# Altium integrated library Analog Devices RF IF Timing ICs and Clocks.IntLib: 168 symbols (part 17 of 18)
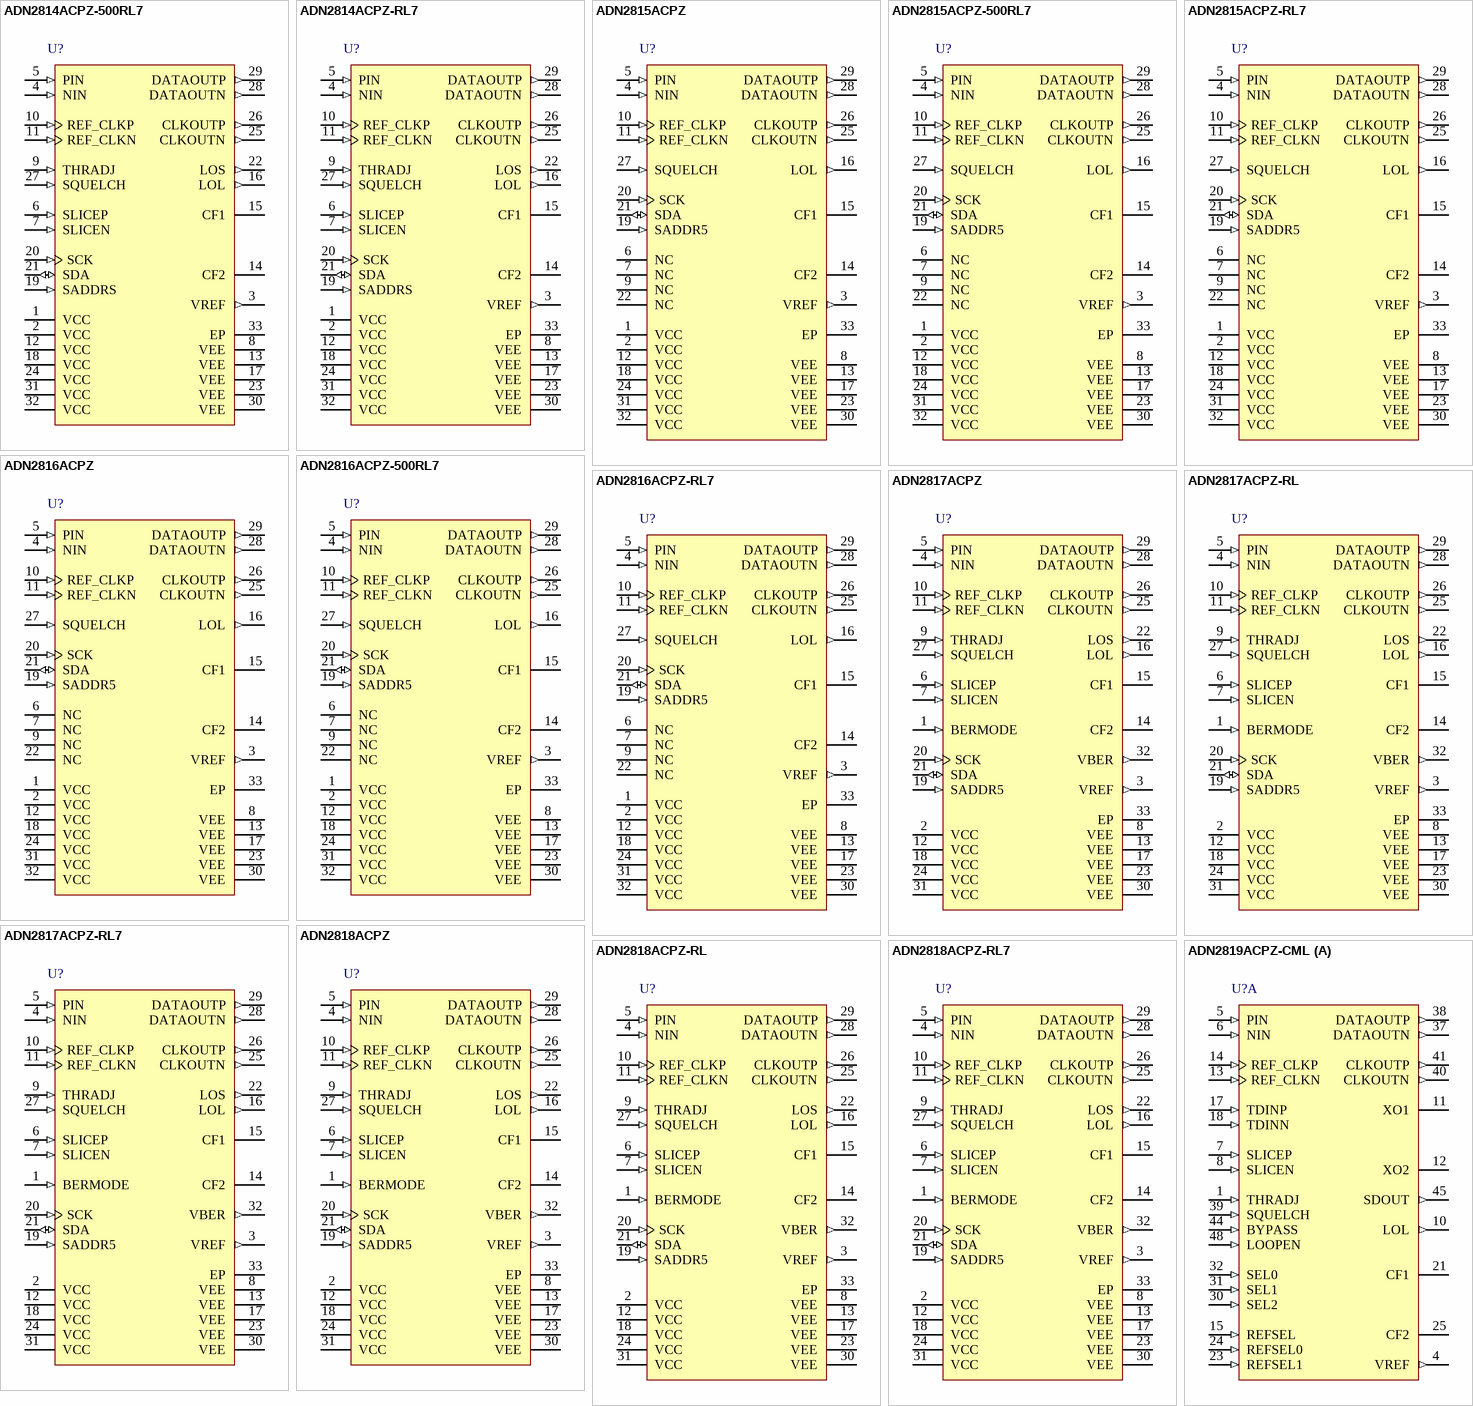
[diagram p31: symbols ADN2814ACPZ-500RL7 to ADN2819ACPZ-CML]

## ADN2817ACPZ
designator U?
Continuous Rate 10 Mbps to 2.7 Gbps Clock and Data Recovery IC, CP-32-2, Pb-Free, 490 Tray; Voltage Supply (V): 3.3; Data Rate (Gb/s): 2.7; Input Sensitivity (mVp-p): 5; Jitter Tolerance (Ulpp): 1.0 @ 1 MHz; Jitter Transfer: 500 kHz @ OC48; Jitter Gen (mUI rms): 1; Reference Clk: Optional; DatasheetVersion: Rev. D; PackageVersion: Jan-2005; PackageReference: CP-32-2; PackageDescription: 32-Lead Lead Frame Chip Scale Package [LFCSP_VQ]; Rate: Continuous; Code_JEDEC: MO-220-VHHD-2; ComponentLink1Description: Manufacturer URL; ComponentLink1URL: www.analog.com; ComponentLink2Description: Datasheet; ComponentLink2URL: http://www.analog.com/static/imported-files/data_sheets/ADN2817_2818.pdf; ComponentLink3Description: Package Specification; ComponentLink3URL: http://www.analog.com/static/imported-files/packages/414143737956480539664569CP_32_2.pdf
footprint ADI-CP-32-2_N (QFN, 32-Leads, Body 5x5mm, Pitch 0.5mm, Thermal Pad 3.1x3.1mm, IPC Medium Density)
footprint ADI-CP-32-2_L (QFN, 32-Leads, Body 5x5mm, Pitch 0.5mm, Thermal Pad 3.1x3.1mm, IPC High Density)
footprint ADI-CP-32-2_M (QFN, 32-Leads, Body 5x5mm, Pitch 0.5mm, Thermal Pad 3.1x3.1mm, IPC Low Density)
pins: 1 BERMODE (in) "Set this pin to logic low to enable analog voltage output mode for BER monitor.", 2 VCC (power) "Power for Input Stage, LOS.", 3 VREF (out) "Internal VREF Voltage. Decouple to ground with a 0.1 uF capacitor.", 4 NIN (in) "Differential Data Input. CML.", 5 PIN (in) "Differential Data Input. CML.", 6 SLICEP (in) "Differential Slice Level Adjust Input.", 7 SLICEN (in) "Differential Slice Level Adjust Input.", 8 VEE (power) "GND for the Limiting Amplifier, LOS.", 9 THRADJ (in) "LOS Threshold Setting Resistor.", 10 REF_CLKP (in) "Differential REFCLK Input. 10 MHz to 200 MHz.", 11 REF_CLKN (in) "Differential REFCLK Input. 10 MHz to 200 MHz.", 12 VCC (power) "VCO Power.", 13 VEE (power) "VCO Ground.", 14 CF2 "Frequency Loop Capacitor.", 15 CF1 "Frequency Loop Capacitor.", 16 LOL (out) "Loss of Lock Indicator. Active high, LVTTL.", 17 VEE (power) "FLL Detector Ground.", 18 VCC (power) "FLL Detector Power.", 19 SADDR5 (in) "Slave Address Bit 5.", 20 SCK (in) "I2C Clock Input.", 21 SDA (io) "I2C Data Input.", 22 LOS (out) "Loss of Signal Detect Output. Active high, LVTTL.", 23 VEE (power) "Output Buffer, I2C Ground.", 24 VCC (power) "Output Buffer, I2C Power.", 25 CLKOUTN (out) "Differential Recovered Clock Output. CML.", 26 CLKOUTP (out) "Differential Recovered Clock Output. CML.", 27 SQUELCH (in) "Disable Clock and Data Outputs. Active high, LVTTL.", 28 DATAOUTN (out) "Differential Recovered Data Output. CML.", 29 DATAOUTP (out) "Differential Recovered Data Output. CML.", 30 VEE (power) "Phase Detector, Phase Shifter Ground.", 31 VCC (power) "Phase Detector, Phase Shifter Power.", 32 VBER (out) "This pin represents BER when analog BERMON is enabled with 3 k ohm to VEE.", 33 EP (power) "Exposed Paddle. The Exposed paddle on the bottom of the package must be connected to VEE."

## ADN2817ACPZ-RL
designator U?
Continuous Rate 10 Mbps to 2.7 Gbps Clock and Data Recovery IC, CP-32-2, Pb-Free, 5000 Reel; Voltage Supply (V): 3.3; Data Rate (Gb/s): 2.7; Input Sensitivity (mVp-p): 5; Jitter Tolerance (Ulpp): 1.0 @ 1 MHz; Jitter Transfer: 500 kHz @ OC48; Jitter Gen (mUI rms): 1; Reference Clk: Optional; DatasheetVersion: Rev. D; PackageVersion: Jan-2005; PackageReference: CP-32-2; PackageDescription: 32-Lead Lead Frame Chip Scale Package [LFCSP_VQ]; Rate: Continuous; Code_JEDEC: MO-220-VHHD-2; ComponentLink1Description: Manufacturer URL; ComponentLink1URL: www.analog.com; ComponentLink2Description: Datasheet; ComponentLink2URL: http://www.analog.com/static/imported-files/data_sheets/ADN2817_2818.pdf; ComponentLink3Description: Package Specification; ComponentLink3URL: http://www.analog.com/static/imported-files/packages/414143737956480539664569CP_32_2.pdf
footprint ADI-CP-32-2_N (QFN, 32-Leads, Body 5x5mm, Pitch 0.5mm, Thermal Pad 3.1x3.1mm, IPC Medium Density)
footprint ADI-CP-32-2_L (QFN, 32-Leads, Body 5x5mm, Pitch 0.5mm, Thermal Pad 3.1x3.1mm, IPC High Density)
footprint ADI-CP-32-2_M (QFN, 32-Leads, Body 5x5mm, Pitch 0.5mm, Thermal Pad 3.1x3.1mm, IPC Low Density)
pins: 1 BERMODE (in) "Set this pin to logic low to enable analog voltage output mode for BER monitor.", 2 VCC (power) "Power for Input Stage, LOS.", 3 VREF (out) "Internal VREF Voltage. Decouple to ground with a 0.1 uF capacitor.", 4 NIN (in) "Differential Data Input. CML.", 5 PIN (in) "Differential Data Input. CML.", 6 SLICEP (in) "Differential Slice Level Adjust Input.", 7 SLICEN (in) "Differential Slice Level Adjust Input.", 8 VEE (power) "GND for the Limiting Amplifier, LOS.", 9 THRADJ (in) "LOS Threshold Setting Resistor.", 10 REF_CLKP (in) "Differential REFCLK Input. 10 MHz to 200 MHz.", 11 REF_CLKN (in) "Differential REFCLK Input. 10 MHz to 200 MHz.", 12 VCC (power) "VCO Power.", 13 VEE (power) "VCO Ground.", 14 CF2 "Frequency Loop Capacitor.", 15 CF1 "Frequency Loop Capacitor.", 16 LOL (out) "Loss of Lock Indicator. Active high, LVTTL.", 17 VEE (power) "FLL Detector Ground.", 18 VCC (power) "FLL Detector Power.", 19 SADDR5 (in) "Slave Address Bit 5.", 20 SCK (in) "I2C Clock Input.", 21 SDA (io) "I2C Data Input.", 22 LOS (out) "Loss of Signal Detect Output. Active high, LVTTL.", 23 VEE (power) "Output Buffer, I2C Ground.", 24 VCC (power) "Output Buffer, I2C Power.", 25 CLKOUTN (out) "Differential Recovered Clock Output. CML.", 26 CLKOUTP (out) "Differential Recovered Clock Output. CML.", 27 SQUELCH (in) "Disable Clock and Data Outputs. Active high, LVTTL.", 28 DATAOUTN (out) "Differential Recovered Data Output. CML.", 29 DATAOUTP (out) "Differential Recovered Data Output. CML.", 30 VEE (power) "Phase Detector, Phase Shifter Ground.", 31 VCC (power) "Phase Detector, Phase Shifter Power.", 32 VBER (out) "This pin represents BER when analog BERMON is enabled with 3 k ohm to VEE.", 33 EP (power) "Exposed Paddle. The Exposed paddle on the bottom of the package must be connected to VEE."

## ADN2817ACPZ-RL7
designator U?
Continuous Rate 10 Mbps to 2.7 Gbps Clock and Data Recovery IC, CP-32-2, Pb-Free, 1500 Reel; Voltage Supply (V): 3.3; Data Rate (Gb/s): 2.7; Input Sensitivity (mVp-p): 5; Jitter Tolerance (Ulpp): 1.0 @ 1 MHz; Jitter Transfer: 500 kHz @ OC48; Jitter Gen (mUI rms): 1; Reference Clk: Optional; DatasheetVersion: Rev. D; PackageVersion: Jan-2005; PackageReference: CP-32-2; PackageDescription: 32-Lead Lead Frame Chip Scale Package [LFCSP_VQ]; Rate: Continuous; Code_JEDEC: MO-220-VHHD-2; ComponentLink1Description: Manufacturer URL; ComponentLink1URL: www.analog.com; ComponentLink2Description: Datasheet; ComponentLink2URL: http://www.analog.com/static/imported-files/data_sheets/ADN2817_2818.pdf; ComponentLink3Description: Package Specification; ComponentLink3URL: http://www.analog.com/static/imported-files/packages/414143737956480539664569CP_32_2.pdf
footprint ADI-CP-32-2_N (QFN, 32-Leads, Body 5x5mm, Pitch 0.5mm, Thermal Pad 3.1x3.1mm, IPC Medium Density)
footprint ADI-CP-32-2_L (QFN, 32-Leads, Body 5x5mm, Pitch 0.5mm, Thermal Pad 3.1x3.1mm, IPC High Density)
footprint ADI-CP-32-2_M (QFN, 32-Leads, Body 5x5mm, Pitch 0.5mm, Thermal Pad 3.1x3.1mm, IPC Low Density)
pins: 1 BERMODE (in) "Set this pin to logic low to enable analog voltage output mode for BER monitor.", 2 VCC (power) "Power for Input Stage, LOS.", 3 VREF (out) "Internal VREF Voltage. Decouple to ground with a 0.1 uF capacitor.", 4 NIN (in) "Differential Data Input. CML.", 5 PIN (in) "Differential Data Input. CML.", 6 SLICEP (in) "Differential Slice Level Adjust Input.", 7 SLICEN (in) "Differential Slice Level Adjust Input.", 8 VEE (power) "GND for the Limiting Amplifier, LOS.", 9 THRADJ (in) "LOS Threshold Setting Resistor.", 10 REF_CLKP (in) "Differential REFCLK Input. 10 MHz to 200 MHz.", 11 REF_CLKN (in) "Differential REFCLK Input. 10 MHz to 200 MHz.", 12 VCC (power) "VCO Power.", 13 VEE (power) "VCO Ground.", 14 CF2 "Frequency Loop Capacitor.", 15 CF1 "Frequency Loop Capacitor.", 16 LOL (out) "Loss of Lock Indicator. Active high, LVTTL.", 17 VEE (power) "FLL Detector Ground.", 18 VCC (power) "FLL Detector Power.", 19 SADDR5 (in) "Slave Address Bit 5.", 20 SCK (in) "I2C Clock Input.", 21 SDA (io) "I2C Data Input.", 22 LOS (out) "Loss of Signal Detect Output. Active high, LVTTL.", 23 VEE (power) "Output Buffer, I2C Ground.", 24 VCC (power) "Output Buffer, I2C Power.", 25 CLKOUTN (out) "Differential Recovered Clock Output. CML.", 26 CLKOUTP (out) "Differential Recovered Clock Output. CML.", 27 SQUELCH (in) "Disable Clock and Data Outputs. Active high, LVTTL.", 28 DATAOUTN (out) "Differential Recovered Data Output. CML.", 29 DATAOUTP (out) "Differential Recovered Data Output. CML.", 30 VEE (power) "Phase Detector, Phase Shifter Ground.", 31 VCC (power) "Phase Detector, Phase Shifter Power.", 32 VBER (out) "This pin represents BER when analog BERMON is enabled with 3 k ohm to VEE.", 33 EP (power) "Exposed Paddle. The Exposed paddle on the bottom of the package must be connected to VEE."

## ADN2818ACPZ
designator U?
Continuous Rate 10 Mbps to 2.7 Gbps Clock and Data Recovery IC, CP-32-2, Pb-Free, 490 Tray; Voltage Supply (V): 3.3; Data Rate (Gb/s): 2.7; Input Sensitivity (mVp-p): 200; Jitter Tolerance (Ulpp): 1.0 @ 1 MHz; Jitter Transfer: 500 kHz @ OC48; Jitter Gen (mUI rms): 1; Reference Clk: Optional; DatasheetVersion: Rev. D; PackageVersion: Jan-2005; PackageReference: CP-32-2; PackageDescription: 32-Lead Lead Frame Chip Scale Package [LFCSP_VQ]; Rate: Continuous; Code_JEDEC: MO-220-VHHD-2; ComponentLink1Description: Manufacturer URL; ComponentLink1URL: www.analog.com; ComponentLink2Description: Datasheet; ComponentLink2URL: http://www.analog.com/static/imported-files/data_sheets/ADN2817_2818.pdf; ComponentLink3Description: Package Specification; ComponentLink3URL: http://www.analog.com/static/imported-files/packages/414143737956480539664569CP_32_2.pdf
footprint ADI-CP-32-2_N (QFN, 32-Leads, Body 5x5mm, Pitch 0.5mm, Thermal Pad 3.1x3.1mm, IPC Medium Density)
footprint ADI-CP-32-2_L (QFN, 32-Leads, Body 5x5mm, Pitch 0.5mm, Thermal Pad 3.1x3.1mm, IPC High Density)
footprint ADI-CP-32-2_M (QFN, 32-Leads, Body 5x5mm, Pitch 0.5mm, Thermal Pad 3.1x3.1mm, IPC Low Density)
pins: 1 BERMODE (in) "Set this pin to logic low to enable analog voltage output mode for BER monitor.", 2 VCC (power) "Power for Input Stage, LOS.", 3 VREF (out) "Internal VREF Voltage. Decouple to ground with a 0.1 uF capacitor.", 4 NIN (in) "Differential Data Input. CML.", 5 PIN (in) "Differential Data Input. CML.", 6 SLICEP (in) "Differential Slice Level Adjust Input.", 7 SLICEN (in) "Differential Slice Level Adjust Input.", 8 VEE (power) "GND for the Limiting Amplifier, LOS.", 9 THRADJ (in) "LOS Threshold Setting Resistor.", 10 REF_CLKP (in) "Differential REFCLK Input. 10 MHz to 200 MHz.", 11 REF_CLKN (in) "Differential REFCLK Input. 10 MHz to 200 MHz.", 12 VCC (power) "VCO Power.", 13 VEE (power) "VCO Ground.", 14 CF2 "Frequency Loop Capacitor.", 15 CF1 "Frequency Loop Capacitor.", 16 LOL (out) "Loss of Lock Indicator. Active high, LVTTL.", 17 VEE (power) "FLL Detector Ground.", 18 VCC (power) "FLL Detector Power.", 19 SADDR5 (in) "Slave Address Bit 5.", 20 SCK (in) "I2C Clock Input.", 21 SDA (io) "I2C Data Input.", 22 LOS (out) "Loss of Signal Detect Output. Active high, LVTTL.", 23 VEE (power) "Output Buffer, I2C Ground.", 24 VCC (power) "Output Buffer, I2C Power.", 25 CLKOUTN (out) "Differential Recovered Clock Output. CML.", 26 CLKOUTP (out) "Differential Recovered Clock Output. CML.", 27 SQUELCH (in) "Disable Clock and Data Outputs. Active high, LVTTL.", 28 DATAOUTN (out) "Differential Recovered Data Output. CML.", 29 DATAOUTP (out) "Differential Recovered Data Output. CML.", 30 VEE (power) "Phase Detector, Phase Shifter Ground.", 31 VCC (power) "Phase Detector, Phase Shifter Power.", 32 VBER (out) "This pin represents BER when analog BERMON is enabled with 3 k ohm to VEE.", 33 EP (power) "Exposed Paddle. The Exposed paddle on the bottom of the package must be connected to VEE."

## ADN2818ACPZ-RL
designator U?
Continuous Rate 10 Mbps to 2.7 Gbps Clock and Data Recovery IC, CP-32-2, Pb-Free, 5000 Reel; Voltage Supply (V): 3.3; Data Rate (Gb/s): 2.7; Input Sensitivity (mVp-p): 200; Jitter Tolerance (Ulpp): 1.0 @ 1 MHz; Jitter Transfer: 500 kHz @ OC48; Jitter Gen (mUI rms): 1; Reference Clk: Optional; DatasheetVersion: Rev. D; PackageVersion: Jan-2005; PackageReference: CP-32-2; PackageDescription: 32-Lead Lead Frame Chip Scale Package [LFCSP_VQ]; Rate: Continuous; Code_JEDEC: MO-220-VHHD-2; ComponentLink1Description: Manufacturer URL; ComponentLink1URL: www.analog.com; ComponentLink2Description: Datasheet; ComponentLink2URL: http://www.analog.com/static/imported-files/data_sheets/ADN2817_2818.pdf; ComponentLink3Description: Package Specification; ComponentLink3URL: http://www.analog.com/static/imported-files/packages/414143737956480539664569CP_32_2.pdf
footprint ADI-CP-32-2_N (QFN, 32-Leads, Body 5x5mm, Pitch 0.5mm, Thermal Pad 3.1x3.1mm, IPC Medium Density)
footprint ADI-CP-32-2_L (QFN, 32-Leads, Body 5x5mm, Pitch 0.5mm, Thermal Pad 3.1x3.1mm, IPC High Density)
footprint ADI-CP-32-2_M (QFN, 32-Leads, Body 5x5mm, Pitch 0.5mm, Thermal Pad 3.1x3.1mm, IPC Low Density)
pins: 1 BERMODE (in) "Set this pin to logic low to enable analog voltage output mode for BER monitor.", 2 VCC (power) "Power for Input Stage, LOS.", 3 VREF (out) "Internal VREF Voltage. Decouple to ground with a 0.1 uF capacitor.", 4 NIN (in) "Differential Data Input. CML.", 5 PIN (in) "Differential Data Input. CML.", 6 SLICEP (in) "Differential Slice Level Adjust Input.", 7 SLICEN (in) "Differential Slice Level Adjust Input.", 8 VEE (power) "GND for the Limiting Amplifier, LOS.", 9 THRADJ (in) "LOS Threshold Setting Resistor.", 10 REF_CLKP (in) "Differential REFCLK Input. 10 MHz to 200 MHz.", 11 REF_CLKN (in) "Differential REFCLK Input. 10 MHz to 200 MHz.", 12 VCC (power) "VCO Power.", 13 VEE (power) "VCO Ground.", 14 CF2 "Frequency Loop Capacitor.", 15 CF1 "Frequency Loop Capacitor.", 16 LOL (out) "Loss of Lock Indicator. Active high, LVTTL.", 17 VEE (power) "FLL Detector Ground.", 18 VCC (power) "FLL Detector Power.", 19 SADDR5 (in) "Slave Address Bit 5.", 20 SCK (in) "I2C Clock Input.", 21 SDA (io) "I2C Data Input.", 22 LOS (out) "Loss of Signal Detect Output. Active high, LVTTL.", 23 VEE (power) "Output Buffer, I2C Ground.", 24 VCC (power) "Output Buffer, I2C Power.", 25 CLKOUTN (out) "Differential Recovered Clock Output. CML.", 26 CLKOUTP (out) "Differential Recovered Clock Output. CML.", 27 SQUELCH (in) "Disable Clock and Data Outputs. Active high, LVTTL.", 28 DATAOUTN (out) "Differential Recovered Data Output. CML.", 29 DATAOUTP (out) "Differential Recovered Data Output. CML.", 30 VEE (power) "Phase Detector, Phase Shifter Ground.", 31 VCC (power) "Phase Detector, Phase Shifter Power.", 32 VBER (out) "This pin represents BER when analog BERMON is enabled with 3 k ohm to VEE.", 33 EP (power) "Exposed Paddle. The Exposed paddle on the bottom of the package must be connected to VEE."

## ADN2818ACPZ-RL7
designator U?
Continuous Rate 10 Mbps to 2.7 Gbps Clock and Data Recovery IC, CP-32-2, Pb-Free, 1500 Reel; Voltage Supply (V): 3.3; Data Rate (Gb/s): 2.7; Input Sensitivity (mVp-p): 200; Jitter Tolerance (Ulpp): 1.0 @ 1 MHz; Jitter Transfer: 500 kHz @ OC48; Jitter Gen (mUI rms): 1; Reference Clk: Optional; DatasheetVersion: Rev. D; PackageVersion: Jan-2005; PackageReference: CP-32-2; PackageDescription: 32-Lead Lead Frame Chip Scale Package [LFCSP_VQ]; Rate: Continuous; Code_JEDEC: MO-220-VHHD-2; ComponentLink1Description: Manufacturer URL; ComponentLink1URL: www.analog.com; ComponentLink2Description: Datasheet; ComponentLink2URL: http://www.analog.com/static/imported-files/data_sheets/ADN2817_2818.pdf; ComponentLink3Description: Package Specification; ComponentLink3URL: http://www.analog.com/static/imported-files/packages/414143737956480539664569CP_32_2.pdf
footprint ADI-CP-32-2_N (QFN, 32-Leads, Body 5x5mm, Pitch 0.5mm, Thermal Pad 3.1x3.1mm, IPC Medium Density)
footprint ADI-CP-32-2_L (QFN, 32-Leads, Body 5x5mm, Pitch 0.5mm, Thermal Pad 3.1x3.1mm, IPC High Density)
footprint ADI-CP-32-2_M (QFN, 32-Leads, Body 5x5mm, Pitch 0.5mm, Thermal Pad 3.1x3.1mm, IPC Low Density)
pins: 1 BERMODE (in) "Set this pin to logic low to enable analog voltage output mode for BER monitor.", 2 VCC (power) "Power for Input Stage, LOS.", 3 VREF (out) "Internal VREF Voltage. Decouple to ground with a 0.1 uF capacitor.", 4 NIN (in) "Differential Data Input. CML.", 5 PIN (in) "Differential Data Input. CML.", 6 SLICEP (in) "Differential Slice Level Adjust Input.", 7 SLICEN (in) "Differential Slice Level Adjust Input.", 8 VEE (power) "GND for the Limiting Amplifier, LOS.", 9 THRADJ (in) "LOS Threshold Setting Resistor.", 10 REF_CLKP (in) "Differential REFCLK Input. 10 MHz to 200 MHz.", 11 REF_CLKN (in) "Differential REFCLK Input. 10 MHz to 200 MHz.", 12 VCC (power) "VCO Power.", 13 VEE (power) "VCO Ground.", 14 CF2 "Frequency Loop Capacitor.", 15 CF1 "Frequency Loop Capacitor.", 16 LOL (out) "Loss of Lock Indicator. Active high, LVTTL.", 17 VEE (power) "FLL Detector Ground.", 18 VCC (power) "FLL Detector Power.", 19 SADDR5 (in) "Slave Address Bit 5.", 20 SCK (in) "I2C Clock Input.", 21 SDA (io) "I2C Data Input.", 22 LOS (out) "Loss of Signal Detect Output. Active high, LVTTL.", 23 VEE (power) "Output Buffer, I2C Ground.", 24 VCC (power) "Output Buffer, I2C Power.", 25 CLKOUTN (out) "Differential Recovered Clock Output. CML.", 26 CLKOUTP (out) "Differential Recovered Clock Output. CML.", 27 SQUELCH (in) "Disable Clock and Data Outputs. Active high, LVTTL.", 28 DATAOUTN (out) "Differential Recovered Data Output. CML.", 29 DATAOUTP (out) "Differential Recovered Data Output. CML.", 30 VEE (power) "Phase Detector, Phase Shifter Ground.", 31 VCC (power) "Phase Detector, Phase Shifter Power.", 32 VBER (out) "This pin represents BER when analog BERMON is enabled with 3 k ohm to VEE.", 33 EP (power) "Exposed Paddle. The Exposed paddle on the bottom of the package must be connected to VEE."

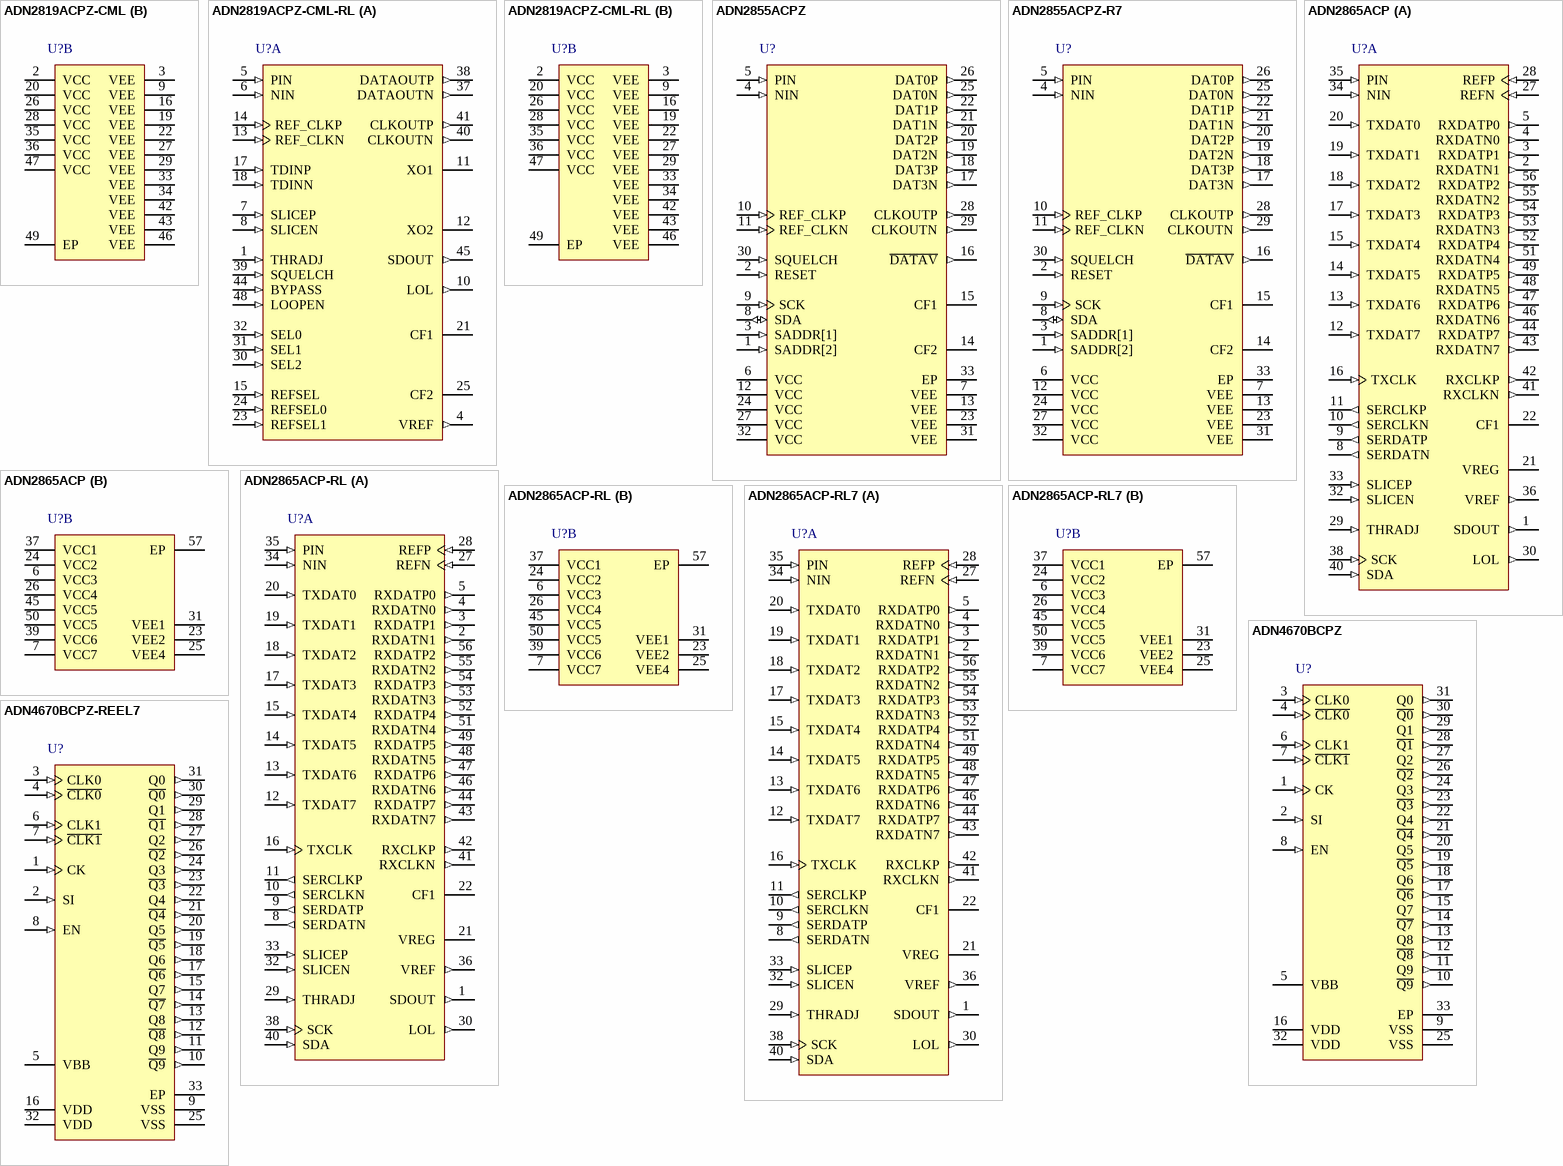
[diagram p15: symbols ADN2819ACPZ-CML to ADN4670BCPZ-REEL7]

## ADN2819ACPZ-CML
designator U?
Multirate to 2.7 Gb/s Clock and Data Recovery IC with Integrated Limiting Amp, CP-48-1, Pb-Free, 260 Tray; Voltage Supply (V): 3.3; Data Rate (Gb/s): 2.7; Input Sensitivity (mVp-p): 4; Jitter Tolerance (Ulpp): 1.0 @ 1 MHz; Jitter Transfer: 590 kHz @ OC48; Jitter Gen (mUI rms): 2; Rate: Multi; Reference Clk: X; DatasheetVersion: Rev. B; PackageVersion: Jan-2005; PackageReference: CP-48-1; PackageDescription: 48-Lead Lead Frame Chip Scale Package [LFCSP_VQ]; Code_JEDEC: MO-220-VKKD-2; ComponentLink1Description: Manufacturer URL; ComponentLink1URL: www.analog.com; ComponentLink2Description: Datasheet; ComponentLink2URL: http://www.analog.com/static/imported-files/data_sheets/ADN2819.pdf; ComponentLink3Description: Package Specification; ComponentLink3URL: http://www.analog.com/static/imported-files/packages/PKG_PDF/LFCSP(CP)/CP-48/CP_48_1.pdf
footprint ADI-CP-48-1_N (QFN, 48-Leads, Body 7x7mm, Pitch 0.5mm, Thermal Pad 5.1x5.1mm, IPC Medium Density)
footprint ADI-CP-48-1_L (QFN, 48-Leads, Body 7x7mm, Pitch 0.5mm, Thermal Pad 5.1x5.1mm, IPC High Density)
footprint ADI-CP-48-1_M (QFN, 48-Leads, Body 7x7mm, Pitch 0.5mm, Thermal Pad 5.1x5.1mm, IPC Low Density)
part A pins: 1 THRADJ (in) "LOS Threshold Setting Resistor.", 4 VREF (out) "Internal VREF Voltage. Decouple to GND with 0.1 uF capacitor.", 5 PIN (in) "Differential Data Input.", 6 NIN (in) "Differential Data Input.", 7 SLICEP (in) "Differential Slice Level Adjust Input.", 8 SLICEN (in) "Differential Slice Level Adjust Input.", 10 LOL (out) "Loss of Lock Indicator. LVTTL active high.", 11 XO1 "Crystal Oscillator.", 12 XO2 "Crystal Oscillator.", 13 REF_CLKN (in) "Differential REFCLK Input.LVTTL,LVCMOS,LVPECL,LVDS (LVPECL, LVDS only at 155.52 MHz).", 14 REF_CLKP (in) "Differential REFCLK Input.LVTTL,LVCMOS,LVPECL,LVDS (LVPECL, LVDS only at 155.52 MHz).", 15 REFSEL (in) "Reference Source Select. 0 = on-chip oscillator with external crystal; 1 = external clock source, LVTTL.", 17 TDINP (in) "Differential Test Data Input. CML.", 18 TDINN (in) "Differential Test Data Input. CML.", 21 CF1 "Frequency Loop Capacitor.", 23 REFSEL1 (in) "Reference Frequency Select (See Table 6) LVTTL.", 24 REFSEL0 (in) "Reference Frequency Select (See Table 6) LVTTL.", 25 CF2 "Frequency Loop Capacitor.", 30 SEL2 (in) "Data Rate Select (See Table 5) LVTTL.", 31 SEL1 (in) "Data Rate Select (See Table 5) LVTTL.", 32 SEL0 (in) "Data Rate Select (See Table 5) LVTTL.", 37 DATAOUTN (out) "Differential Retimed Data Output. CML.", 38 DATAOUTP (out) "Differential Retimed Data Output. CML.", 39 SQUELCH (in) "Disable Clock and Data Outputs. Active high. LVTTL.", 40 CLKOUTN (out) "Differential Recovered Clock Output. CML.", 41 CLKOUTP (out) "Differential Recovered Clock Output. CML.", 44 BYPASS (in) "Bypass CDR Mode. Active high. LVTTL.", 45 SDOUT (out) "Loss of Signal Detect Output. Active high. LVTTL.", 48 LOOPEN (in) "Enable Test Data Inputs. Active high. LVTTL."
part B pins: 2 VCC (power) "Analog Supply.", 3 VEE (power) "Ground.", 9 VEE (power) "Ground.", 16 VEE (power) "Ground.", 19 VEE (power) "Ground.", 20 VCC (power) "Digital Supply.", 22 VEE (power) "Ground.", 26 VCC (power) "Analog Supply.", 27 VEE (power) "Ground.", 28 VCC (power) "Analog Supply.", 29 VEE (power) "Ground.", 33 VEE (power) "Ground.", 34 VEE (power) "Ground.", 35 VCC (power) "Output Driver Supply.", 36 VCC (power) "Output Driver Supply.", 42 VEE (power) "Ground.", 43 VEE (power) "Ground.", 46 VEE (power) "Ground.", 47 VCC (power) "Digital Supply.", 49 EP (power) "Exposed pad"

## ADN2819ACPZ-CML-RL
designator U?
Multirate to 2.7 Gb/s Clock and Data Recovery IC with Integrated Limiting Amp, CP-48-1, Pb-Free, 2500 Reel; Voltage Supply (V): 3.3; Data Rate (Gb/s): 2.7; Input Sensitivity (mVp-p): 4; Jitter Tolerance (Ulpp): 1.0 @ 1 MHz; Jitter Transfer: 590 kHz @ OC48; Jitter Gen (mUI rms): 2; Rate: Multi; Reference Clk: X; DatasheetVersion: Rev. B; PackageVersion: Jan-2005; PackageReference: CP-48-1; PackageDescription: 48-Lead Lead Frame Chip Scale Package [LFCSP_VQ]; Code_JEDEC: MO-220-VKKD-2; ComponentLink1Description: Manufacturer URL; ComponentLink1URL: www.analog.com; ComponentLink2Description: Datasheet; ComponentLink2URL: http://www.analog.com/static/imported-files/data_sheets/ADN2819.pdf; ComponentLink3Description: Package Specification; ComponentLink3URL: http://www.analog.com/static/imported-files/packages/PKG_PDF/LFCSP(CP)/CP-48/CP_48_1.pdf
footprint ADI-CP-48-1_N (QFN, 48-Leads, Body 7x7mm, Pitch 0.5mm, Thermal Pad 5.1x5.1mm, IPC Medium Density)
footprint ADI-CP-48-1_L (QFN, 48-Leads, Body 7x7mm, Pitch 0.5mm, Thermal Pad 5.1x5.1mm, IPC High Density)
footprint ADI-CP-48-1_M (QFN, 48-Leads, Body 7x7mm, Pitch 0.5mm, Thermal Pad 5.1x5.1mm, IPC Low Density)
part A pins: 1 THRADJ (in) "LOS Threshold Setting Resistor.", 4 VREF (out) "Internal VREF Voltage. Decouple to GND with 0.1 uF capacitor.", 5 PIN (in) "Differential Data Input.", 6 NIN (in) "Differential Data Input.", 7 SLICEP (in) "Differential Slice Level Adjust Input.", 8 SLICEN (in) "Differential Slice Level Adjust Input.", 10 LOL (out) "Loss of Lock Indicator. LVTTL active high.", 11 XO1 "Crystal Oscillator.", 12 XO2 "Crystal Oscillator.", 13 REF_CLKN (in) "Differential REFCLK Input.LVTTL,LVCMOS,LVPECL,LVDS (LVPECL, LVDS only at 155.52 MHz).", 14 REF_CLKP (in) "Differential REFCLK Input.LVTTL,LVCMOS,LVPECL,LVDS (LVPECL, LVDS only at 155.52 MHz).", 15 REFSEL (in) "Reference Source Select. 0 = on-chip oscillator with external crystal; 1 = external clock source, LVTTL.", 17 TDINP (in) "Differential Test Data Input. CML.", 18 TDINN (in) "Differential Test Data Input. CML.", 21 CF1 "Frequency Loop Capacitor.", 23 REFSEL1 (in) "Reference Frequency Select (See Table 6) LVTTL.", 24 REFSEL0 (in) "Reference Frequency Select (See Table 6) LVTTL.", 25 CF2 "Frequency Loop Capacitor.", 30 SEL2 (in) "Data Rate Select (See Table 5) LVTTL.", 31 SEL1 (in) "Data Rate Select (See Table 5) LVTTL.", 32 SEL0 (in) "Data Rate Select (See Table 5) LVTTL.", 37 DATAOUTN (out) "Differential Retimed Data Output. CML.", 38 DATAOUTP (out) "Differential Retimed Data Output. CML.", 39 SQUELCH (in) "Disable Clock and Data Outputs. Active high. LVTTL.", 40 CLKOUTN (out) "Differential Recovered Clock Output. CML.", 41 CLKOUTP (out) "Differential Recovered Clock Output. CML.", 44 BYPASS (in) "Bypass CDR Mode. Active high. LVTTL.", 45 SDOUT (out) "Loss of Signal Detect Output. Active high. LVTTL.", 48 LOOPEN (in) "Enable Test Data Inputs. Active high. LVTTL."
part B pins: 2 VCC (power) "Analog Supply.", 3 VEE (power) "Ground.", 9 VEE (power) "Ground.", 16 VEE (power) "Ground.", 19 VEE (power) "Ground.", 20 VCC (power) "Digital Supply.", 22 VEE (power) "Ground.", 26 VCC (power) "Analog Supply.", 27 VEE (power) "Ground.", 28 VCC (power) "Analog Supply.", 29 VEE (power) "Ground.", 33 VEE (power) "Ground.", 34 VEE (power) "Ground.", 35 VCC (power) "Output Driver Supply.", 36 VCC (power) "Output Driver Supply.", 42 VEE (power) "Ground.", 43 VEE (power) "Ground.", 46 VEE (power) "Ground.", 47 VCC (power) "Digital Supply.", 49 EP (power) "Exposed pad"

## ADN2855ACPZ
designator U?
Multirate 155 Mbps/622 Mbps/1244 Mbps/1250 Mbps Burst Mode Clock and Data Recovery IC with Deserializer, CP-32-3, Pb-Free, 490 Tray; Voltage Supply (V): 3.3; Data Rate (Gb/s): 1.25; Input Sensitivity (mVp-p): 100; Jitter Tolerance (Ulpp): 1.0 @ 65 kHz; Rate: Single; Reference Clk: X; DatasheetVersion: Rev. 0; PackageVersion: Jan-2005; PackageReference: CP-32-3; PackageDescription: 32-Lead Lead Frame Chip Scale Package [LFCSP_VQ]; Code_JEDEC: MO-220-VHHD-2; ComponentLink1Description: Manufacturer URL; ComponentLink1URL: www.analog.com; ComponentLink2Description: Datasheet; ComponentLink2URL: http://www.analog.com/static/imported-files/data_sheets/ADN2855.pdf; ComponentLink3Description: Package Specification; ComponentLink3URL: http://www.analog.com/static/imported-files/packages/32877413525511988CP_32_3.pdf
footprint ADI-CP-32-3_N (QFN, 32-Leads, Body 5x5mm, Pitch 0.5mm, Thermal Pad 3.3x3.3mm, IPC Medium Density)
footprint ADI-CP-32-3_L (QFN, 32-Leads, Body 5x5mm, Pitch 0.5mm, Thermal Pad 3.3x3.3mm, IPC High Density)
footprint ADI-CP-32-3_M (QFN, 32-Leads, Body 5x5mm, Pitch 0.5mm, Thermal Pad 3.3x3.3mm, IPC Low Density)
pins: 1 SADDR[2] (in) "Slave Address Bit 2.", 2 RESET (in) "RESET Pulse to be Asserted Prior to Incoming Burst. Active high.", 3 SADDR[1] (in) "Slave Address Bit 1.", 4 NIN (in) "Differential Data Input. CML.", 5 PIN (in) "Differential Data Input. CML.", 6 VCC (power) "3.3 V Power", 7 VEE (power) "GND.", 8 SDA (io) "I2C Data I/O.", 9 SCK (in) "I2C Clock", 10 REF_CLKP (in) "Differential REFCLK Input.", 11 REF_CLKN (in) "Differential REFCLK Input.", 12 VCC (power) "3.3 V Power.", 13 VEE (power) "GND.", 14 CF2 "Frequency Loop Capacitor.", 15 CF1 "Frequency Loop Capacitor.", 16 ~{DATAV} (out) "Output Data Valid. LVTTL active low.", 17 DAT3N (out) "Differential Deserialized Output MSB, LVDS.", 18 DAT3P (out) "Differential Deserialized Output MSB, LVDS.", 19 DAT2N (out) "Differential Deserialized Output Bit 2, LVDS.", 20 DAT2P (out) "Differential Deserialized Output Bit 2, LVDS.", 21 DAT1N (out) "Differential Deserialized Output Bit 1, LVDS.", 22 DAT1P (out) "Differential Deserialized Output Bit 1, LVDS.", 23 VEE (power) "GND.", 24 VCC (power) "3.3 V Power.", 25 DAT0N (out) "Differential Deserialized Output LSB, LVDS", 26 DAT0P (out) "Differential Deserialized Output LSB, LVDS", 27 VCC (power) "3.3 V Power", 28 CLKOUTP (out) "Differential Recovered Clock Output, LVDS", 29 CLKOUTN (out) "Differential Recovered Clock Output, LVDS", 30 SQUELCH (in) "Squelch Data and/or Clock Outputs. Active high.", 31 VEE (power) "GND", 32 VCC (power) "3.3 V Power", 33 EP (power) "There is an exposed pad on the bottom of the package that must be connected to VEE (GND)."

## ADN2855ACPZ-R7
designator U?
Multirate 155 Mbps/622 Mbps/1244 Mbps/1250 Mbps Burst Mode Clock and Data Recovery IC with Deserializer, CP-32-3, Pb-Free, 1500 Reel; Voltage Supply (V): 3.3; Data Rate (Gb/s): 1.25; Input Sensitivity (mVp-p): 100; Jitter Tolerance (Ulpp): 1.0 @ 65 kHz; Rate: Single; Reference Clk: X; DatasheetVersion: Rev. 0; PackageVersion: Jan-2005; PackageReference: CP-32-3; PackageDescription: 32-Lead Lead Frame Chip Scale Package [LFCSP_VQ]; Code_JEDEC: MO-220-VHHD-2; ComponentLink1Description: Manufacturer URL; ComponentLink1URL: www.analog.com; ComponentLink2Description: Datasheet; ComponentLink2URL: http://www.analog.com/static/imported-files/data_sheets/ADN2855.pdf; ComponentLink3Description: Package Specification; ComponentLink3URL: http://www.analog.com/static/imported-files/packages/32877413525511988CP_32_3.pdf
footprint ADI-CP-32-3_N (QFN, 32-Leads, Body 5x5mm, Pitch 0.5mm, Thermal Pad 3.3x3.3mm, IPC Medium Density)
footprint ADI-CP-32-3_L (QFN, 32-Leads, Body 5x5mm, Pitch 0.5mm, Thermal Pad 3.3x3.3mm, IPC High Density)
footprint ADI-CP-32-3_M (QFN, 32-Leads, Body 5x5mm, Pitch 0.5mm, Thermal Pad 3.3x3.3mm, IPC Low Density)
pins: 1 SADDR[2] (in) "Slave Address Bit 2.", 2 RESET (in) "RESET Pulse to be Asserted Prior to Incoming Burst. Active high.", 3 SADDR[1] (in) "Slave Address Bit 1.", 4 NIN (in) "Differential Data Input. CML.", 5 PIN (in) "Differential Data Input. CML.", 6 VCC (power) "3.3 V Power", 7 VEE (power) "GND.", 8 SDA (io) "I2C Data I/O.", 9 SCK (in) "I2C Clock", 10 REF_CLKP (in) "Differential REFCLK Input.", 11 REF_CLKN (in) "Differential REFCLK Input.", 12 VCC (power) "3.3 V Power.", 13 VEE (power) "GND.", 14 CF2 "Frequency Loop Capacitor.", 15 CF1 "Frequency Loop Capacitor.", 16 ~{DATAV} (out) "Output Data Valid. LVTTL active low.", 17 DAT3N (out) "Differential Deserialized Output MSB, LVDS.", 18 DAT3P (out) "Differential Deserialized Output MSB, LVDS.", 19 DAT2N (out) "Differential Deserialized Output Bit 2, LVDS.", 20 DAT2P (out) "Differential Deserialized Output Bit 2, LVDS.", 21 DAT1N (out) "Differential Deserialized Output Bit 1, LVDS.", 22 DAT1P (out) "Differential Deserialized Output Bit 1, LVDS.", 23 VEE (power) "GND.", 24 VCC (power) "3.3 V Power.", 25 DAT0N (out) "Differential Deserialized Output LSB, LVDS", 26 DAT0P (out) "Differential Deserialized Output LSB, LVDS", 27 VCC (power) "3.3 V Power", 28 CLKOUTP (out) "Differential Recovered Clock Output, LVDS", 29 CLKOUTN (out) "Differential Recovered Clock Output, LVDS", 30 SQUELCH (in) "Squelch Data and/or Clock Outputs. Active high.", 31 VEE (power) "GND", 32 VCC (power) "3.3 V Power", 33 EP (power) "There is an exposed pad on the bottom of the package that must be connected to VEE (GND)."

## ADN2865ACP
designator U?
Continuous Rate 12.3Mb/s to 2.7Gb/s Clock and Data Recovery IC w/Loop Timed SERDES, CP-56; Voltage Supply (V): 3.3; Data Rate (Gb/s): 2.7; Input Sensitivity (mVp-p): 6; Reference Clk: Optional; DatasheetVersion: Rev. PrA; PackageVersion: 112805-0; PackageReference: CP-56; PackageDescription: 56-Lead Frame Chip Scale Package [LFCSP_VQ] 8 x 8 mm Body, Very Thin Quad; Rate: Continuous; Code_JEDEC: MO-220-VLLD-2; ComponentLink1Description: Manufacturer URL; ComponentLink1URL: www.analog.com; ComponentLink2Description: Datasheet; ComponentLink2URL: http://www.analog.com/static/imported-files/data_sheets/ADN2865.pdf
footprint ADI-CP-56_N (QFN, 56-Leads, Body 8x8mm, Pitch 0.5mm, Thermal Pad 6.1x6.1mm, IPC Medium Density)
footprint ADI-CP-56_L (QFN, 56-Leads, Body 8x8mm, Pitch 0.5mm, Thermal Pad 6.1x6.1mm, IPC High Density)
footprint ADI-CP-56_M (QFN, 56-Leads, Body 8x8mm, Pitch 0.5mm, Thermal Pad 6.1x6.1mm, IPC Low Density)
part A pins: 1 SDOUT (out) "Active high, Loss of signal indicator. (LVTTL)", 2 RXDATN1 (out) "Differential receive data output. (LVDS)", 3 RXDATP1 (out) "Differential receive data output. (LVDS)", 4 RXDATN0 (out) "Differential receive data output. Last bit received. (LVDS)", 5 RXDATP0 (out) "Differential receive data output. Last bit received. (LVDS)", 8 SERDATN (out) "Differential serialized data output to LDD. (CML)", 9 SERDATP (out) "Differential serialized data output to LDD. (CML)", 10 SERCLKN (out) "Differential clock for serialized Tx data. (CML)", 11 SERCLKP (out) "Differential clock for serialized Tx data. (CML)", 12 TXDAT7 (in) "Transmit data input. First bit sent. (LVTTL)", 13 TXDAT6 (in) "Transmit data input. (LVTTL)", 14 TXDAT5 (in) "Transmit data input. (LVTTL)", 15 TXDAT4 (in) "Transmit data input. (LVTTL)", 16 TXCLK (in) "Qualifying clock for transmit data input. (LVTTL)", 17 TXDAT3 (in) "Transmit data input. (LVTTL)", 18 TXDAT2 (in) "Transmit data input. (LVTTL)", 19 TXDAT1 (in) "Transmit data input. (LVTTL)", 20 TXDAT0 (in) "Transmit data input. Last bit sent (LVTTL)", 21 VREG "Decoupling node for VCO power.", 22 CF1 "PLL loop filter capacitor.", 27 REFN (in) "Reference clock input. (LVDS/LVTTL)", 28 REFP (in) "Reference clock input. (LVDS/LVTTL)", 29 THRADJ (in) "LOS Threshold Setting Resistor.", 30 LOL (out) "Active high, Loss-of-Lock Indicator. (LVTTL)", 32 SLICEN (in) "Differential Slice Level Adjust Input", 33 SLICEP (in) "Differential Slice Level Adjust Input", 34 NIN (in) "Differential serial input to Limiting Amp. (CML)", 35 PIN (in) "Differential serial input to Limiting Amp. (CML)", 36 VREF (out) "Decoupling node for internal voltage reference", 38 SCK (in) "I2C Serial Clock Input.", 40 SDA (in) "I2C Serial Data Input.", 41 RXCLKN (out) "Qualifying clock for Rx Data Outputs. (LVDS)", 42 RXCLKP (out) "Qualifying clock for Rx Data Outputs. (LVDS)", 43 RXDATN7 (out) "Differential receive data output. Last bit received. (LVDS)", 44 RXDATP7 (out) "Differential receive data output. Last bit received. (LVDS)", 46 RXDATN6 (out) "Differential receive data output. (LVDS)", 47 RXDATP6 (out) "Differential receive data output. (LVDS)", 48 RXDATN5 (out) "Differential receive data output. (LVDS)", 49 RXDATP5 (out) "Differential receive data output. (LVDS)", 51 RXDATN4 (out) "Differential receive data output. (LVDS)", 52 RXDATP4 (out) "Differential receive data output. (LVDS)", 53 RXDATN3 (out) "Differential receive data output. (LVDS)", 54 RXDATP3 (out) "Differential receive data output. (LVDS)", 55 RXDATN2 (out) "Differential receive data output. (LVDS)", 56 RXDATP2 (out) "Differential receive data output. (LVDS)"
part B pins: 6 VCC3 (power) "Power for CDR & Serialiser", 7 VCC7 (power) "Power for CML drivers", 23 VEE2 (power) "Ground for VCO/PLL/Gm", 24 VCC2 (power) "Power for VCO/PLL/Gm", 25 VEE4 (power) "Ground for FLL", 26 VCC4 (power) "Power for FLL", 31 VEE1 (power) "Ground for Limamp/LOS", 37 VCC1 (power) "Power for Limamp/LOS", 39 VCC6 (power) "Power for Deserialiser, LVDS pre-drivers", 45 VCC5 (power) "Power for LVDS drivers", 50 VCC5 (power) "Power for LVDS Drivers", 57 EP (power) "Exposed Pad"

## ADN2865ACP-RL
designator U?
Continuous Rate 12.3Mb/s to 2.7Gb/s Clock and Data Recovery IC w/Loop Timed SERDES, CP-56; Voltage Supply (V): 3.3; Data Rate (Gb/s): 2.7; Input Sensitivity (mVp-p): 6; Reference Clk: Optional; DatasheetVersion: Rev. PrA; PackageVersion: 112805-0; PackageReference: CP-56; PackageDescription: 56-Lead Frame Chip Scale Package [LFCSP_VQ] 8 x 8 mm Body, Very Thin Quad; Rate: Continuous; Code_JEDEC: MO-220-VLLD-2; ComponentLink1Description: Manufacturer URL; ComponentLink1URL: www.analog.com; ComponentLink2Description: Datasheet; ComponentLink2URL: http://www.analog.com/static/imported-files/data_sheets/ADN2865.pdf
footprint ADI-CP-56_N (QFN, 56-Leads, Body 8x8mm, Pitch 0.5mm, Thermal Pad 6.1x6.1mm, IPC Medium Density)
footprint ADI-CP-56_L (QFN, 56-Leads, Body 8x8mm, Pitch 0.5mm, Thermal Pad 6.1x6.1mm, IPC High Density)
footprint ADI-CP-56_M (QFN, 56-Leads, Body 8x8mm, Pitch 0.5mm, Thermal Pad 6.1x6.1mm, IPC Low Density)
part A pins: 1 SDOUT (out) "Active high, Loss of signal indicator. (LVTTL)", 2 RXDATN1 (out) "Differential receive data output. (LVDS)", 3 RXDATP1 (out) "Differential receive data output. (LVDS)", 4 RXDATN0 (out) "Differential receive data output. Last bit received. (LVDS)", 5 RXDATP0 (out) "Differential receive data output. Last bit received. (LVDS)", 8 SERDATN (out) "Differential serialized data output to LDD. (CML)", 9 SERDATP (out) "Differential serialized data output to LDD. (CML)", 10 SERCLKN (out) "Differential clock for serialized Tx data. (CML)", 11 SERCLKP (out) "Differential clock for serialized Tx data. (CML)", 12 TXDAT7 (in) "Transmit data input. First bit sent. (LVTTL)", 13 TXDAT6 (in) "Transmit data input. (LVTTL)", 14 TXDAT5 (in) "Transmit data input. (LVTTL)", 15 TXDAT4 (in) "Transmit data input. (LVTTL)", 16 TXCLK (in) "Qualifying clock for transmit data input. (LVTTL)", 17 TXDAT3 (in) "Transmit data input. (LVTTL)", 18 TXDAT2 (in) "Transmit data input. (LVTTL)", 19 TXDAT1 (in) "Transmit data input. (LVTTL)", 20 TXDAT0 (in) "Transmit data input. Last bit sent (LVTTL)", 21 VREG "Decoupling node for VCO power.", 22 CF1 "PLL loop filter capacitor.", 27 REFN (in) "Reference clock input. (LVDS/LVTTL)", 28 REFP (in) "Reference clock input. (LVDS/LVTTL)", 29 THRADJ (in) "LOS Threshold Setting Resistor.", 30 LOL (out) "Active high, Loss-of-Lock Indicator. (LVTTL)", 32 SLICEN (in) "Differential Slice Level Adjust Input", 33 SLICEP (in) "Differential Slice Level Adjust Input", 34 NIN (in) "Differential serial input to Limiting Amp. (CML)", 35 PIN (in) "Differential serial input to Limiting Amp. (CML)", 36 VREF (out) "Decoupling node for internal voltage reference", 38 SCK (in) "I2C Serial Clock Input.", 40 SDA (in) "I2C Serial Data Input.", 41 RXCLKN (out) "Qualifying clock for Rx Data Outputs. (LVDS)", 42 RXCLKP (out) "Qualifying clock for Rx Data Outputs. (LVDS)", 43 RXDATN7 (out) "Differential receive data output. Last bit received. (LVDS)", 44 RXDATP7 (out) "Differential receive data output. Last bit received. (LVDS)", 46 RXDATN6 (out) "Differential receive data output. (LVDS)", 47 RXDATP6 (out) "Differential receive data output. (LVDS)", 48 RXDATN5 (out) "Differential receive data output. (LVDS)", 49 RXDATP5 (out) "Differential receive data output. (LVDS)", 51 RXDATN4 (out) "Differential receive data output. (LVDS)", 52 RXDATP4 (out) "Differential receive data output. (LVDS)", 53 RXDATN3 (out) "Differential receive data output. (LVDS)", 54 RXDATP3 (out) "Differential receive data output. (LVDS)", 55 RXDATN2 (out) "Differential receive data output. (LVDS)", 56 RXDATP2 (out) "Differential receive data output. (LVDS)"
part B pins: 6 VCC3 (power) "Power for CDR & Serialiser", 7 VCC7 (power) "Power for CML drivers", 23 VEE2 (power) "Ground for VCO/PLL/Gm", 24 VCC2 (power) "Power for VCO/PLL/Gm", 25 VEE4 (power) "Ground for FLL", 26 VCC4 (power) "Power for FLL", 31 VEE1 (power) "Ground for Limamp/LOS", 37 VCC1 (power) "Power for Limamp/LOS", 39 VCC6 (power) "Power for Deserialiser, LVDS pre-drivers", 45 VCC5 (power) "Power for LVDS drivers", 50 VCC5 (power) "Power for LVDS Drivers", 57 EP (power) "Exposed Pad"

## ADN2865ACP-RL7
designator U?
Continuous Rate 12.3Mb/s to 2.7Gb/s Clock and Data Recovery IC w/Loop Timed SERDES, CP-56; Voltage Supply (V): 3.3; Data Rate (Gb/s): 2.7; Input Sensitivity (mVp-p): 6; Reference Clk: Optional; DatasheetVersion: Rev. PrA; PackageVersion: 112805-0; PackageReference: CP-56; PackageDescription: 56-Lead Frame Chip Scale Package [LFCSP_VQ] 8 x 8 mm Body, Very Thin Quad; Rate: Continuous; Code_JEDEC: MO-220-VLLD-2; ComponentLink1Description: Manufacturer URL; ComponentLink1URL: www.analog.com; ComponentLink2Description: Datasheet; ComponentLink2URL: http://www.analog.com/static/imported-files/data_sheets/ADN2865.pdf
footprint ADI-CP-56_N (QFN, 56-Leads, Body 8x8mm, Pitch 0.5mm, Thermal Pad 6.1x6.1mm, IPC Medium Density)
footprint ADI-CP-56_L (QFN, 56-Leads, Body 8x8mm, Pitch 0.5mm, Thermal Pad 6.1x6.1mm, IPC High Density)
footprint ADI-CP-56_M (QFN, 56-Leads, Body 8x8mm, Pitch 0.5mm, Thermal Pad 6.1x6.1mm, IPC Low Density)
part A pins: 1 SDOUT (out) "Active high, Loss of signal indicator. (LVTTL)", 2 RXDATN1 (out) "Differential receive data output. (LVDS)", 3 RXDATP1 (out) "Differential receive data output. (LVDS)", 4 RXDATN0 (out) "Differential receive data output. Last bit received. (LVDS)", 5 RXDATP0 (out) "Differential receive data output. Last bit received. (LVDS)", 8 SERDATN (out) "Differential serialized data output to LDD. (CML)", 9 SERDATP (out) "Differential serialized data output to LDD. (CML)", 10 SERCLKN (out) "Differential clock for serialized Tx data. (CML)", 11 SERCLKP (out) "Differential clock for serialized Tx data. (CML)", 12 TXDAT7 (in) "Transmit data input. First bit sent. (LVTTL)", 13 TXDAT6 (in) "Transmit data input. (LVTTL)", 14 TXDAT5 (in) "Transmit data input. (LVTTL)", 15 TXDAT4 (in) "Transmit data input. (LVTTL)", 16 TXCLK (in) "Qualifying clock for transmit data input. (LVTTL)", 17 TXDAT3 (in) "Transmit data input. (LVTTL)", 18 TXDAT2 (in) "Transmit data input. (LVTTL)", 19 TXDAT1 (in) "Transmit data input. (LVTTL)", 20 TXDAT0 (in) "Transmit data input. Last bit sent (LVTTL)", 21 VREG "Decoupling node for VCO power.", 22 CF1 "PLL loop filter capacitor.", 27 REFN (in) "Reference clock input. (LVDS/LVTTL)", 28 REFP (in) "Reference clock input. (LVDS/LVTTL)", 29 THRADJ (in) "LOS Threshold Setting Resistor.", 30 LOL (out) "Active high, Loss-of-Lock Indicator. (LVTTL)", 32 SLICEN (in) "Differential Slice Level Adjust Input", 33 SLICEP (in) "Differential Slice Level Adjust Input", 34 NIN (in) "Differential serial input to Limiting Amp. (CML)", 35 PIN (in) "Differential serial input to Limiting Amp. (CML)", 36 VREF (out) "Decoupling node for internal voltage reference", 38 SCK (in) "I2C Serial Clock Input.", 40 SDA (in) "I2C Serial Data Input.", 41 RXCLKN (out) "Qualifying clock for Rx Data Outputs. (LVDS)", 42 RXCLKP (out) "Qualifying clock for Rx Data Outputs. (LVDS)", 43 RXDATN7 (out) "Differential receive data output. Last bit received. (LVDS)", 44 RXDATP7 (out) "Differential receive data output. Last bit received. (LVDS)", 46 RXDATN6 (out) "Differential receive data output. (LVDS)", 47 RXDATP6 (out) "Differential receive data output. (LVDS)", 48 RXDATN5 (out) "Differential receive data output. (LVDS)", 49 RXDATP5 (out) "Differential receive data output. (LVDS)", 51 RXDATN4 (out) "Differential receive data output. (LVDS)", 52 RXDATP4 (out) "Differential receive data output. (LVDS)", 53 RXDATN3 (out) "Differential receive data output. (LVDS)", 54 RXDATP3 (out) "Differential receive data output. (LVDS)", 55 RXDATN2 (out) "Differential receive data output. (LVDS)", 56 RXDATP2 (out) "Differential receive data output. (LVDS)"
part B pins: 6 VCC3 (power) "Power for CDR & Serialiser", 7 VCC7 (power) "Power for CML drivers", 23 VEE2 (power) "Ground for VCO/PLL/Gm", 24 VCC2 (power) "Power for VCO/PLL/Gm", 25 VEE4 (power) "Ground for FLL", 26 VCC4 (power) "Power for FLL", 31 VEE1 (power) "Ground for Limamp/LOS", 37 VCC1 (power) "Power for Limamp/LOS", 39 VCC6 (power) "Power for Deserialiser, LVDS pre-drivers", 45 VCC5 (power) "Power for LVDS drivers", 50 VCC5 (power) "Power for LVDS Drivers", 57 EP (power) "Exposed Pad"